# Altium footprint library 00318001.PcbLib: 1 footprints
Each footprint in its own frame and in the unit in brackets; x right, y up, seen from the top. Pads: shape width x height; smd on the part's side, far side on the other; paste and mask are expansions set on the pad; w line width, h text height; cw(c..) or ccw(c..) is an arc to the next point about the centre after c.
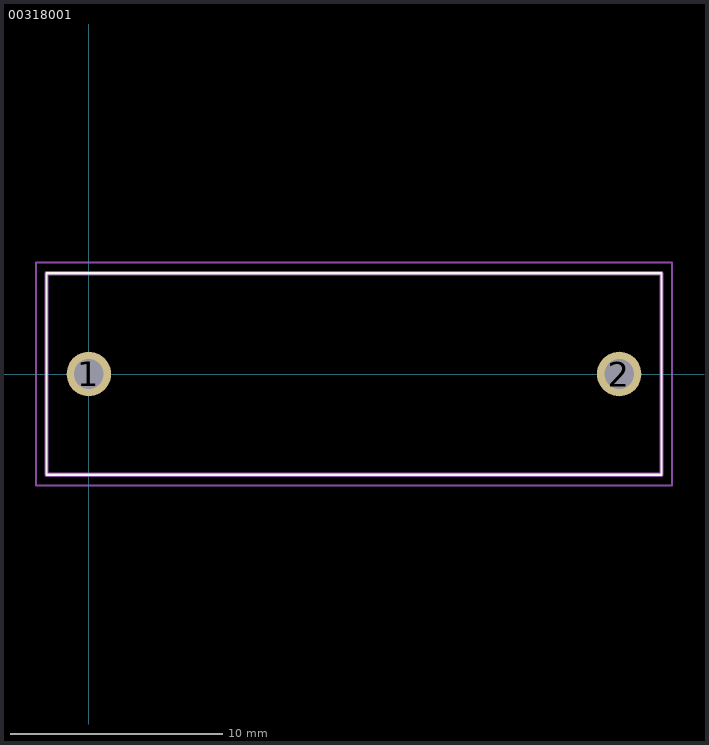
[diagram p0: the footprint, top view; thin cyan lines are the x and y axes]

## 00318001 [mm]
pads (2):
  round 2.1 hole 1.4: 1(0,0) 2(25,0)
Top Overlay:
  lines w0.1: -2,-4.75 27,-4.75 27,4.75 -2,4.75 -2,-4.75
Mechanical 15:
  lines w0.2: -2,-4.75 27,-4.75 27,4.75 -2,4.75 -2,-4.75
Mechanical 20:
  lines w0.1: -2.5,-5.25 27.5,-5.25 27.5,5.25 -2.5,5.25 -2.5,-5.25